# Altium footprint library 4DBP10805.PcbLib: 1 footprints
Each footprint in its own frame and in the unit in brackets; x right, y up, seen from the top. Pads: shape width x height; smd on the part's side, far side on the other; paste and mask are expansions set on the pad; w line width, h text height; cw(c..) or ccw(c..) is an arc to the next point about the centre after c.
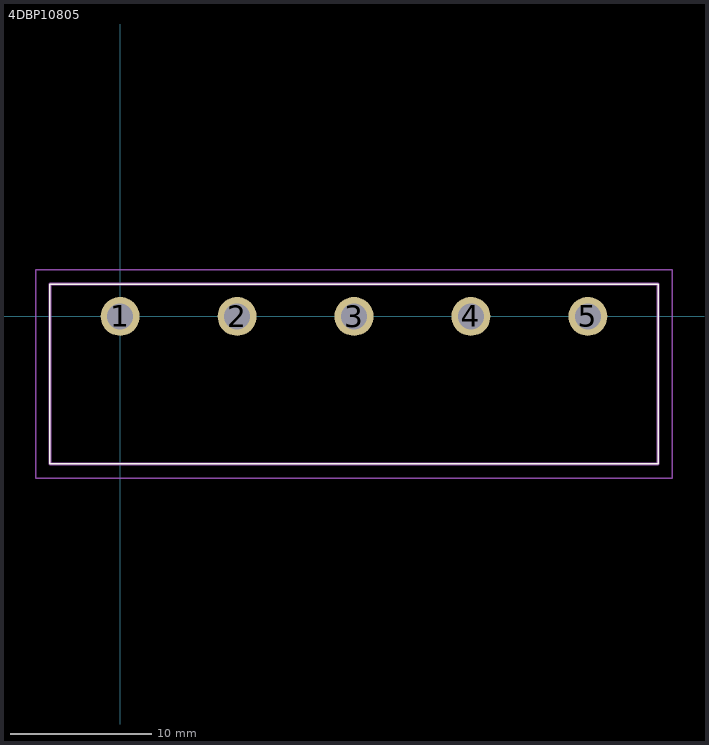
[diagram p0: the footprint, top view; thin cyan lines are the x and y axes]

## 4DBP10805 [mm]
pads (5):
  round 2.745 hole 1.83: 1(0,0) 2(8.255,0) 3(16.51,0) 4(24.765,0) 5(33.02,0)
Top Overlay:
  lines w0.1: -4.953,-10.414 37.973,-10.414 37.973,2.286 -4.953,2.286 -4.953,-10.414
Mechanical 15:
  lines w0.2: -4.953,-10.414 37.973,-10.414 37.973,2.286 -4.953,2.286 -4.953,-10.414
Mechanical 20:
  lines w0.1: -5.953,-11.414 38.973,-11.414 38.973,3.286 -5.953,3.286 -5.953,-11.414